# EAGLE library part EP2C20AF484 (library altera-cyclone-II)
EP2C20AF484 Auto generated by make-symbol-device-package-bsdl.ulp Rev. 18 Tip: Use split-device-symbol.ulp to generate a Device with multiple small symbols! Read HELP. Source: EP2C20AF484.BSD
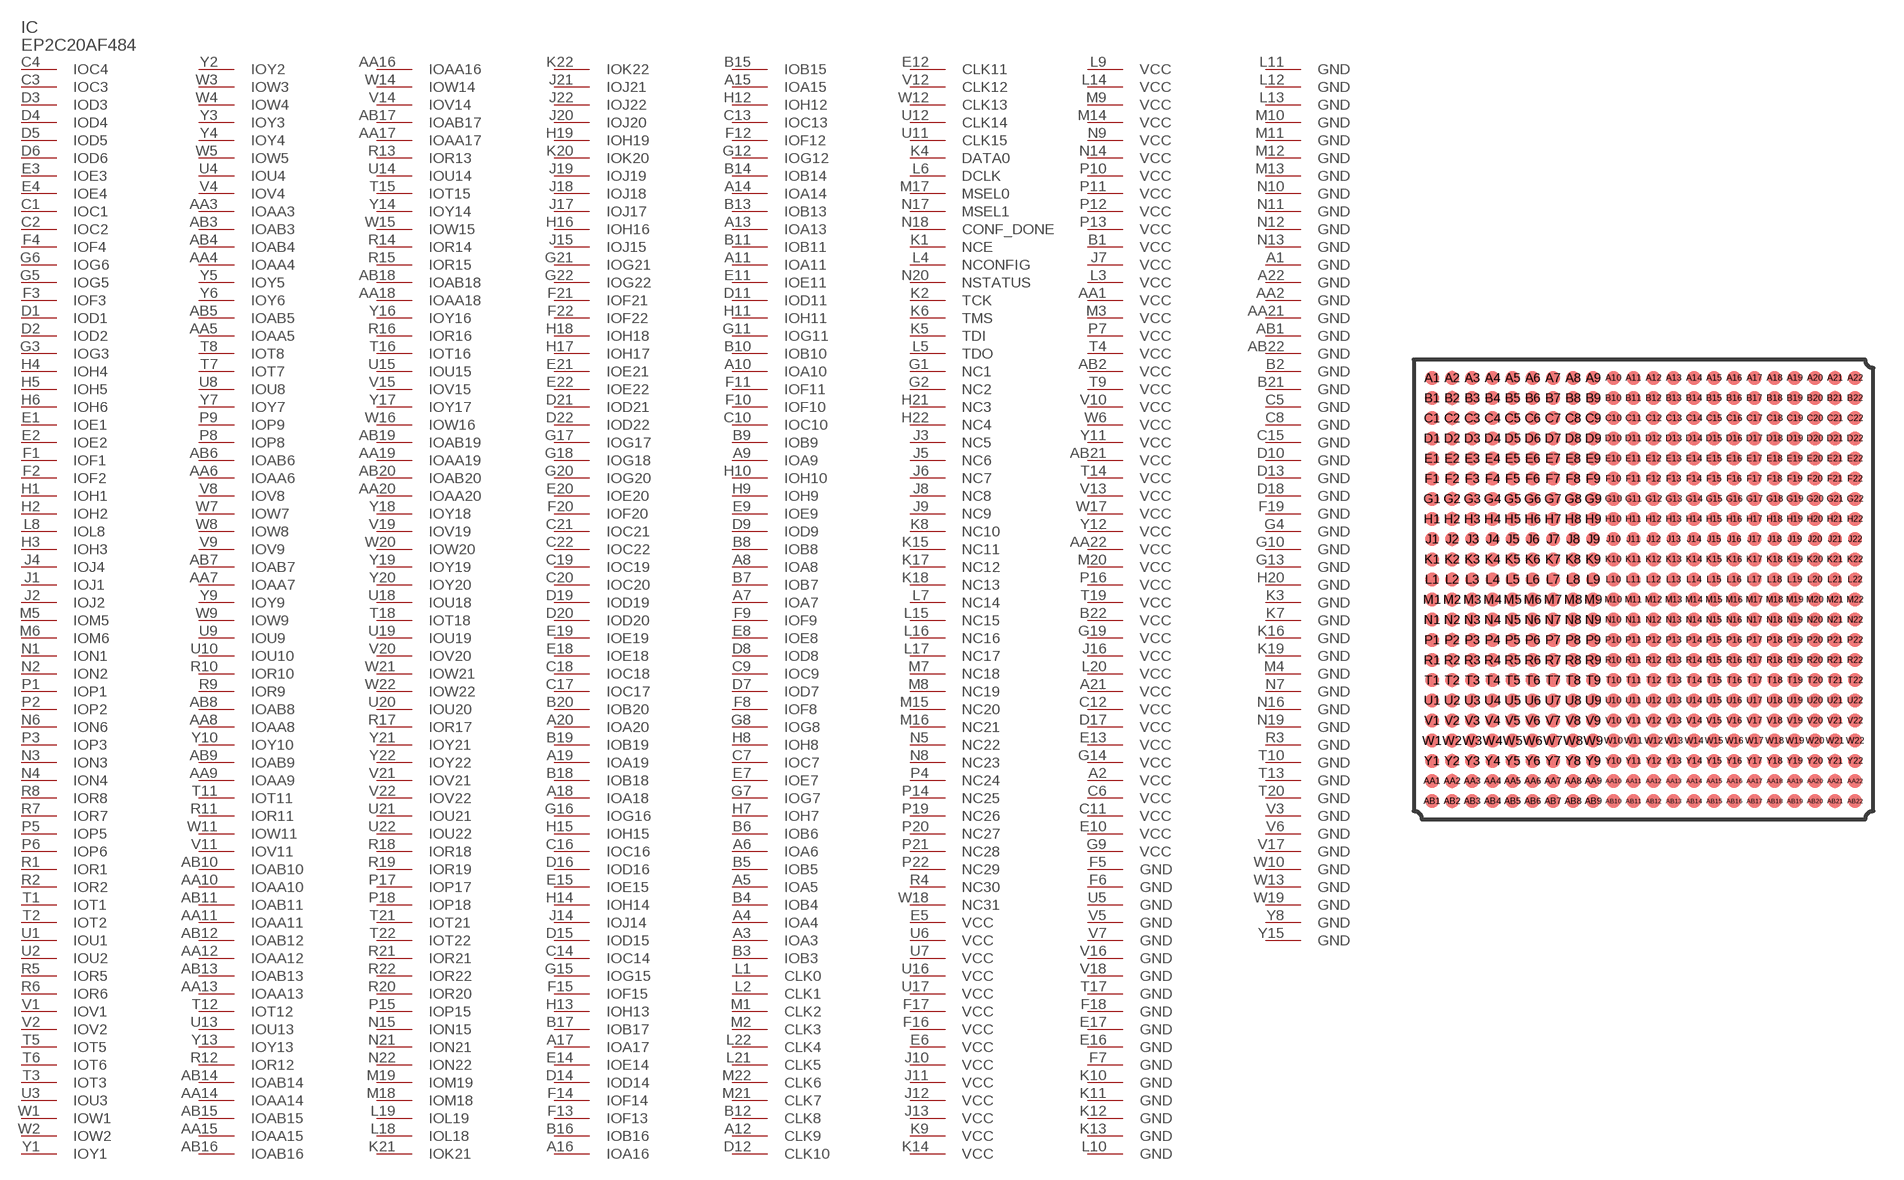
[diagram p18: symbol with the pads of FBGA484; footprint FBGA484]

Designator prefix IC

## EP2C20AF484 (MPN: EP2C20AF484I8N; OC_FARNELL: unknown; OC_NEWARK: 52R0500)  [FBGA484]
A1  GND  pwr
A2  VCC  pwr
A3  IOA3
A4  IOA4
A5  IOA5
A6  IOA6
A7  IOA7
A8  IOA8
A9  IOA9
A10  IOA10
A11  IOA11
A12  CLK9
A13  IOA13
A14  IOA14
A15  IOA15
A16  IOA16
A17  IOA17
A18  IOA18
A19  IOA19
A20  IOA20
A21  VCC  pwr
A22  GND  pwr
AA1  VCC  pwr
AA2  GND  pwr
AA3  IOAA3
AA4  IOAA4
AA5  IOAA5
AA6  IOAA6
AA7  IOAA7
AA8  IOAA8
AA9  IOAA9
AA10  IOAA10
AA11  IOAA11
AA12  IOAA12
AA13  IOAA13
AA14  IOAA14
AA15  IOAA15
AA16  IOAA16
AA17  IOAA17
AA18  IOAA18
AA19  IOAA19
AA20  IOAA20
AA21  GND  pwr
AA22  VCC  pwr
AB1  GND  pwr
AB2  VCC  pwr
AB3  IOAB3
AB4  IOAB4
AB5  IOAB5
AB6  IOAB6
AB7  IOAB7
AB8  IOAB8
AB9  IOAB9
AB10  IOAB10
AB11  IOAB11
AB12  IOAB12
AB13  IOAB13
AB14  IOAB14
AB15  IOAB15
AB16  IOAB16
AB17  IOAB17
AB18  IOAB18
AB19  IOAB19
AB20  IOAB20
AB21  VCC  pwr
AB22  GND  pwr
B1  VCC  pwr
B2  GND  pwr
B3  IOB3
B4  IOB4
B5  IOB5
B6  IOB6
B7  IOB7
B8  IOB8
B9  IOB9
B10  IOB10
B11  IOB11
B12  CLK8
B13  IOB13
B14  IOB14
B15  IOB15
B16  IOB16
B17  IOB17
B18  IOB18
B19  IOB19
B20  IOB20
B21  GND  pwr
B22  VCC  pwr
C1  IOC1
C2  IOC2
C3  IOC3  out
C4  IOC4  out
C5  GND  pwr
C6  VCC  pwr
C7  IOC7
C8  GND  pwr
C9  IOC9
C10  IOC10
C11  VCC  pwr
C12  VCC  pwr
C13  IOC13
C14  IOC14
C15  GND  pwr
C16  IOC16
C17  IOC17
C18  IOC18
C19  IOC19
C20  IOC20
C21  IOC21
C22  IOC22
D1  IOD1
D2  IOD2
D3  IOD3
D4  IOD4
D5  IOD5
D6  IOD6
D7  IOD7
D8  IOD8
D9  IOD9
D10  GND  pwr
D11  IOD11
D12  CLK10
D13  GND  pwr
D14  IOD14
D15  IOD15
D16  IOD16
D17  VCC  pwr
D18  GND  pwr
D19  IOD19
D20  IOD20
D21  IOD21
D22  IOD22
E1  IOE1
E2  IOE2
E3  IOE3
E4  IOE4
E5  VCC  pwr
E6  VCC  pwr
E7  IOE7
E8  IOE8
E9  IOE9
E10  VCC  pwr
E11  IOE11
E12  CLK11
E13  VCC  pwr
E14  IOE14
E15  IOE15
E16  GND  pwr
E17  GND  pwr
E18  IOE18
E19  IOE19
E20  IOE20
E21  IOE21
E22  IOE22
F1  IOF1
F2  IOF2
F3  IOF3
F4  IOF4
F5  GND  pwr
F6  GND  pwr
F7  GND  pwr
F8  IOF8
F9  IOF9
F10  IOF10
F11  IOF11
F12  IOF12
F13  IOF13
F14  IOF14
F15  IOF15
F16  VCC  pwr
F17  VCC  pwr
F18  GND  pwr
F19  GND  pwr
F20  IOF20
F21  IOF21
F22  IOF22
G1  NC1  pas
G2  NC2  pas
G3  IOG3
G4  GND  pwr
G5  IOG5
G6  IOG6
G7  IOG7
G8  IOG8
G9  VCC  pwr
G10  GND  pwr
G11  IOG11
G12  IOG12
G13  GND  pwr
G14  VCC  pwr
G15  IOG15
G16  IOG16
G17  IOG17
G18  IOG18
G19  VCC  pwr
G20  IOG20
G21  IOG21
G22  IOG22
H1  IOH1
H2  IOH2
H3  IOH3
H4  IOH4
H5  IOH5
H6  IOH6
H7  IOH7
H8  IOH8
H9  IOH9
H10  IOH10
H11  IOH11
H12  IOH12
H13  IOH13
H14  IOH14
H15  IOH15
H16  IOH16
H17  IOH17
H18  IOH18
H19  IOH19
H20  GND  pwr
H21  NC3  pas
H22  NC4  pas
J1  IOJ1
J2  IOJ2
J3  NC5  pas
J4  IOJ4
J5  NC6  pas
J6  NC7  pas
J7  VCC  pwr
J8  NC8  pas
J9  NC9  pas
J10  VCC  pwr
J11  VCC  pwr
J12  VCC  pwr
J13  VCC  pwr
J14  IOJ14
J15  IOJ15
J16  VCC  pwr
J17  IOJ17
J18  IOJ18
J19  IOJ19
J20  IOJ20
J21  IOJ21
J22  IOJ22
K1  NCE  in
K2  TCK  in
K3  GND  pwr
K4  DATA0
K5  TDI  in
K6  TMS  in
K7  GND  pwr
K8  NC10  pas
K9  VCC  pwr
K10  GND  pwr
K11  GND  pwr
K12  GND  pwr
K13  GND  pwr
K14  VCC  pwr
K15  NC11  pas
K16  GND  pwr
K17  NC12  pas
K18  NC13  pas
K19  GND  pwr
K20  IOK20
K21  IOK21
K22  IOK22
L1  CLK0
L2  CLK1
L3  VCC  pwr
L4  NCONFIG  in
L5  TDO  out
L6  DCLK
L7  NC14  pas
L8  IOL8
L9  VCC  pwr
L10  GND  pwr
L11  GND  pwr
L12  GND  pwr
L13  GND  pwr
L14  VCC  pwr
L15  NC15  pas
L16  NC16  pas
L17  NC17  pas
L18  IOL18
L19  IOL19
L20  VCC  pwr
L21  CLK5
L22  CLK4
M1  CLK2
M2  CLK3
M3  VCC  pwr
M4  GND  pwr
M5  IOM5
M6  IOM6
M7  NC18  pas
M8  NC19  pas
M9  VCC  pwr
M10  GND  pwr
M11  GND  pwr
M12  GND  pwr
M13  GND  pwr
M14  VCC  pwr
M15  NC20  pas
M16  NC21  pas
M17  MSEL0  in
M18  IOM18
M19  IOM19
M20  VCC  pwr
M21  CLK7
M22  CLK6
N1  ION1
N2  ION2
N3  ION3
N4  ION4
N5  NC22  pas
N6  ION6
N7  GND  pwr
N8  NC23  pas
N9  VCC  pwr
N10  GND  pwr
N11  GND  pwr
N12  GND  pwr
N13  GND  pwr
N14  VCC  pwr
N15  ION15
N16  GND  pwr
N17  MSEL1  in
N18  CONF_DONE  in
N19  GND  pwr
N20  NSTATUS  in
N21  ION21
N22  ION22
P1  IOP1
P2  IOP2
P3  IOP3
P4  NC24  pas
P5  IOP5
P6  IOP6
P7  VCC  pwr
P8  IOP8
P9  IOP9
P10  VCC  pwr
P11  VCC  pwr
P12  VCC  pwr
P13  VCC  pwr
P14  NC25  pas
P15  IOP15
P16  VCC  pwr
P17  IOP17
P18  IOP18
P19  NC26  pas
P20  NC27  pas
P21  NC28  pas
P22  NC29  pas
R1  IOR1
R2  IOR2
R3  GND  pwr
R4  NC30  pas
R5  IOR5
R6  IOR6
R7  IOR7
R8  IOR8
R9  IOR9
R10  IOR10
R11  IOR11
R12  IOR12
R13  IOR13
R14  IOR14
R15  IOR15
R16  IOR16
R17  IOR17
R18  IOR18
R19  IOR19
R20  IOR20
R21  IOR21
R22  IOR22
T1  IOT1
T2  IOT2
T3  IOT3
T4  VCC  pwr
T5  IOT5
T6  IOT6
T7  IOT7
T8  IOT8
T9  VCC  pwr
T10  GND  pwr
T11  IOT11
T12  IOT12
T13  GND  pwr
T14  VCC  pwr
T15  IOT15
T16  IOT16
T17  GND  pwr
T18  IOT18
T19  VCC  pwr
T20  GND  pwr
T21  IOT21
T22  IOT22
U1  IOU1
U2  IOU2
U3  IOU3
U4  IOU4
U5  GND  pwr
U6  VCC  pwr
U7  VCC  pwr
U8  IOU8
U9  IOU9
U10  IOU10
U11  CLK15
U12  CLK14
U13  IOU13
U14  IOU14
U15  IOU15
U16  VCC  pwr
U17  VCC  pwr
U18  IOU18
U19  IOU19
U20  IOU20
U21  IOU21
U22  IOU22
V1  IOV1
V2  IOV2
V3  GND  pwr
V4  IOV4
V5  GND  pwr
V6  GND  pwr
V7  GND  pwr
V8  IOV8
V9  IOV9
V10  VCC  pwr
V11  IOV11
V12  CLK12
V13  VCC  pwr
V14  IOV14
V15  IOV15
V16  GND  pwr
V17  GND  pwr
V18  GND  pwr
V19  IOV19
V20  IOV20
V21  IOV21
V22  IOV22
W1  IOW1
W2  IOW2
W3  IOW3
W4  IOW4
W5  IOW5
W6  VCC  pwr
W7  IOW7
W8  IOW8
W9  IOW9
W10  GND  pwr
W11  IOW11
W12  CLK13
W13  GND  pwr
W14  IOW14
W15  IOW15
W16  IOW16
W17  VCC  pwr
W18  NC31  pas
W19  GND  pwr
W20  IOW20
W21  IOW21
W22  IOW22
Y1  IOY1
Y2  IOY2
Y3  IOY3
Y4  IOY4
Y5  IOY5
Y6  IOY6
Y7  IOY7
Y8  GND  pwr
Y9  IOY9
Y10  IOY10
Y11  VCC  pwr
Y12  VCC  pwr
Y13  IOY13
Y14  IOY14
Y15  GND  pwr
Y16  IOY16
Y17  IOY17
Y18  IOY18
Y19  IOY19
Y20  IOY20
Y21  IOY21
Y22  IOY22

## Footprint FBGA484 (pad centres in mm)
EP2C15AF484 Auto generated by make-symbol-device-package-bsdl.ulp Rev. 18 Source: EP2C15AF484.BSD www.altera.com .. cyc2_cii51015.pdf
smd 0.7 x 0.7: A1 -10.5,10.5; A2 -9.5,10.5; A3 -8.5,10.5; A4 -7.5,10.5; A5 -6.5,10.5; A6 -5.5,10.5; A7 -4.5,10.5; A8 -3.5,10.5; A9 -2.5,10.5; A10 -1.5,10.5; A11 -0.5,10.5; A12 0.5,10.5; A13 1.5,10.5; A14 2.5,10.5; A15 3.5,10.5; A16 4.5,10.5; A17 5.5,10.5; A18 6.5,10.5; A19 7.5,10.5; A20 8.5,10.5; A21 9.5,10.5; A22 10.5,10.5; AA1 -10.5,-9.5; AA2 -9.5,-9.5; AA3 -8.5,-9.5; AA4 -7.5,-9.5; AA5 -6.5,-9.5; AA6 -5.5,-9.5; AA7 -4.5,-9.5; AA8 -3.5,-9.5; AA9 -2.5,-9.5; AA10 -1.5,-9.5; AA11 -0.5,-9.5; AA12 0.5,-9.5; AA13 1.5,-9.5; AA14 2.5,-9.5; AA15 3.5,-9.5; AA16 4.5,-9.5; AA17 5.5,-9.5; AA18 6.5,-9.5; AA19 7.5,-9.5; AA20 8.5,-9.5; AA21 9.5,-9.5; AA22 10.5,-9.5; AB1 -10.5,-10.5; AB2 -9.5,-10.5; AB3 -8.5,-10.5; AB4 -7.5,-10.5; AB5 -6.5,-10.5; AB6 -5.5,-10.5; AB7 -4.5,-10.5; AB8 -3.5,-10.5; AB9 -2.5,-10.5; AB10 -1.5,-10.5; AB11 -0.5,-10.5; AB12 0.5,-10.5; AB13 1.5,-10.5; AB14 2.5,-10.5; AB15 3.5,-10.5; AB16 4.5,-10.5; AB17 5.5,-10.5; AB18 6.5,-10.5; AB19 7.5,-10.5; AB20 8.5,-10.5; AB21 9.5,-10.5; AB22 10.5,-10.5; B1 -10.5,9.5; B2 -9.5,9.5; B3 -8.5,9.5; B4 -7.5,9.5; B5 -6.5,9.5; B6 -5.5,9.5; B7 -4.5,9.5; B8 -3.5,9.5; B9 -2.5,9.5; B10 -1.5,9.5; B11 -0.5,9.5; B12 0.5,9.5; B13 1.5,9.5; B14 2.5,9.5; B15 3.5,9.5; B16 4.5,9.5; B17 5.5,9.5; B18 6.5,9.5; B19 7.5,9.5; B20 8.5,9.5; B21 9.5,9.5; B22 10.5,9.5; C1 -10.5,8.5; C2 -9.5,8.5; C3 -8.5,8.5; C4 -7.5,8.5; C5 -6.5,8.5; C6 -5.5,8.5; C7 -4.5,8.5; C8 -3.5,8.5; C9 -2.5,8.5; C10 -1.5,8.5; C11 -0.5,8.5; C12 0.5,8.5; C13 1.5,8.5; C14 2.5,8.5; C15 3.5,8.5; C16 4.5,8.5; C17 5.5,8.5; C18 6.5,8.5; C19 7.5,8.5; C20 8.5,8.5; C21 9.5,8.5; C22 10.5,8.5; D1 -10.5,7.5; D2 -9.5,7.5; D3 -8.5,7.5; D4 -7.5,7.5; D5 -6.5,7.5; D6 -5.5,7.5; D7 -4.5,7.5; D8 -3.5,7.5; D9 -2.5,7.5; D10 -1.5,7.5; D11 -0.5,7.5; D12 0.5,7.5; D13 1.5,7.5; D14 2.5,7.5; D15 3.5,7.5; D16 4.5,7.5; D17 5.5,7.5; D18 6.5,7.5; D19 7.5,7.5; D20 8.5,7.5; D21 9.5,7.5; D22 10.5,7.5; E1 -10.5,6.5; E2 -9.5,6.5; E3 -8.5,6.5; E4 -7.5,6.5; E5 -6.5,6.5; E6 -5.5,6.5; E7 -4.5,6.5; E8 -3.5,6.5; E9 -2.5,6.5; E10 -1.5,6.5; E11 -0.5,6.5; E12 0.5,6.5; E13 1.5,6.5; E14 2.5,6.5; E15 3.5,6.5; E16 4.5,6.5; E17 5.5,6.5; E18 6.5,6.5; E19 7.5,6.5; E20 8.5,6.5; E21 9.5,6.5; E22 10.5,6.5; F1 -10.5,5.5; F2 -9.5,5.5; F3 -8.5,5.5; F4 -7.5,5.5; F5 -6.5,5.5; F6 -5.5,5.5; F7 -4.5,5.5; F8 -3.5,5.5; F9 -2.5,5.5; F10 -1.5,5.5; F11 -0.5,5.5; F12 0.5,5.5; F13 1.5,5.5; F14 2.5,5.5; F15 3.5,5.5; F16 4.5,5.5; F17 5.5,5.5; F18 6.5,5.5; F19 7.5,5.5; F20 8.5,5.5; F21 9.5,5.5; F22 10.5,5.5; G1 -10.5,4.5; G2 -9.5,4.5; G3 -8.5,4.5; G4 -7.5,4.5; G5 -6.5,4.5; G6 -5.5,4.5; G7 -4.5,4.5; G8 -3.5,4.5; G9 -2.5,4.5; G10 -1.5,4.5; G11 -0.5,4.5; G12 0.5,4.5; G13 1.5,4.5; G14 2.5,4.5; G15 3.5,4.5; G16 4.5,4.5; G17 5.5,4.5; G18 6.5,4.5; G19 7.5,4.5; G20 8.5,4.5; G21 9.5,4.5; G22 10.5,4.5; H1 -10.5,3.5; H2 -9.5,3.5; H3 -8.5,3.5; H4 -7.5,3.5; H5 -6.5,3.5; H6 -5.5,3.5; H7 -4.5,3.5; H8 -3.5,3.5; H9 -2.5,3.5; H10 -1.5,3.5; H11 -0.5,3.5; H12 0.5,3.5; H13 1.5,3.5; H14 2.5,3.5; H15 3.5,3.5; H16 4.5,3.5; H17 5.5,3.5; H18 6.5,3.5; H19 7.5,3.5; H20 8.5,3.5; H21 9.5,3.5; H22 10.5,3.5; J1 -10.5,2.5; J2 -9.5,2.5; J3 -8.5,2.5; J4 -7.5,2.5; J5 -6.5,2.5; J6 -5.5,2.5; J7 -4.5,2.5; J8 -3.5,2.5; J9 -2.5,2.5; J10 -1.5,2.5; J11 -0.5,2.5; J12 0.5,2.5; J13 1.5,2.5; J14 2.5,2.5; J15 3.5,2.5; J16 4.5,2.5; J17 5.5,2.5; J18 6.5,2.5; J19 7.5,2.5; J20 8.5,2.5; J21 9.5,2.5; J22 10.5,2.5; K1 -10.5,1.5; K2 -9.5,1.5; K3 -8.5,1.5; K4 -7.5,1.5; K5 -6.5,1.5; K6 -5.5,1.5; K7 -4.5,1.5; K8 -3.5,1.5; K9 -2.5,1.5; K10 -1.5,1.5; K11 -0.5,1.5; K12 0.5,1.5; K13 1.5,1.5; K14 2.5,1.5; K15 3.5,1.5; K16 4.5,1.5; K17 5.5,1.5; K18 6.5,1.5; K19 7.5,1.5; K20 8.5,1.5; K21 9.5,1.5; K22 10.5,1.5; L1 -10.5,0.5; L2 -9.5,0.5; L3 -8.5,0.5; L4 -7.5,0.5; L5 -6.5,0.5; L6 -5.5,0.5; L7 -4.5,0.5; L8 -3.5,0.5; L9 -2.5,0.5; L10 -1.5,0.5; L11 -0.5,0.5; L12 0.5,0.5; L13 1.5,0.5; L14 2.5,0.5; L15 3.5,0.5; L16 4.5,0.5; L17 5.5,0.5; L18 6.5,0.5; L19 7.5,0.5; L20 8.5,0.5; L21 9.5,0.5; L22 10.5,0.5; M1 -10.5,-0.5; M2 -9.5,-0.5; M3 -8.5,-0.5; M4 -7.5,-0.5; M5 -6.5,-0.5; M6 -5.5,-0.5; M7 -4.5,-0.5; M8 -3.5,-0.5; M9 -2.5,-0.5; M10 -1.5,-0.5; M11 -0.5,-0.5; M12 0.5,-0.5; M13 1.5,-0.5; M14 2.5,-0.5; M15 3.5,-0.5; M16 4.5,-0.5; M17 5.5,-0.5; M18 6.5,-0.5; M19 7.5,-0.5; M20 8.5,-0.5; M21 9.5,-0.5; M22 10.5,-0.5; N1 -10.5,-1.5; N2 -9.5,-1.5; N3 -8.5,-1.5; N4 -7.5,-1.5; N5 -6.5,-1.5; N6 -5.5,-1.5; N7 -4.5,-1.5; N8 -3.5,-1.5; N9 -2.5,-1.5; N10 -1.5,-1.5; N11 -0.5,-1.5; N12 0.5,-1.5; N13 1.5,-1.5; N14 2.5,-1.5; N15 3.5,-1.5; N16 4.5,-1.5; N17 5.5,-1.5; N18 6.5,-1.5; N19 7.5,-1.5; N20 8.5,-1.5; N21 9.5,-1.5; N22 10.5,-1.5; P1 -10.5,-2.5; P2 -9.5,-2.5; P3 -8.5,-2.5; P4 -7.5,-2.5; P5 -6.5,-2.5; P6 -5.5,-2.5; P7 -4.5,-2.5; P8 -3.5,-2.5; P9 -2.5,-2.5; P10 -1.5,-2.5; P11 -0.5,-2.5; P12 0.5,-2.5; P13 1.5,-2.5; P14 2.5,-2.5; P15 3.5,-2.5; P16 4.5,-2.5; P17 5.5,-2.5; P18 6.5,-2.5; P19 7.5,-2.5; P20 8.5,-2.5; P21 9.5,-2.5; P22 10.5,-2.5; R1 -10.5,-3.5; R2 -9.5,-3.5; R3 -8.5,-3.5; R4 -7.5,-3.5; R5 -6.5,-3.5; R6 -5.5,-3.5; R7 -4.5,-3.5; R8 -3.5,-3.5; R9 -2.5,-3.5; R10 -1.5,-3.5; R11 -0.5,-3.5; R12 0.5,-3.5; R13 1.5,-3.5; R14 2.5,-3.5; R15 3.5,-3.5; R16 4.5,-3.5; R17 5.5,-3.5; R18 6.5,-3.5; R19 7.5,-3.5; R20 8.5,-3.5; R21 9.5,-3.5; R22 10.5,-3.5; T1 -10.5,-4.5; T2 -9.5,-4.5; T3 -8.5,-4.5; T4 -7.5,-4.5; T5 -6.5,-4.5; T6 -5.5,-4.5; T7 -4.5,-4.5; T8 -3.5,-4.5; T9 -2.5,-4.5; T10 -1.5,-4.5; T11 -0.5,-4.5; T12 0.5,-4.5; T13 1.5,-4.5; T14 2.5,-4.5; T15 3.5,-4.5; T16 4.5,-4.5; T17 5.5,-4.5; T18 6.5,-4.5; T19 7.5,-4.5; T20 8.5,-4.5; T21 9.5,-4.5; T22 10.5,-4.5; U1 -10.5,-5.5; U2 -9.5,-5.5; U3 -8.5,-5.5; U4 -7.5,-5.5; U5 -6.5,-5.5; U6 -5.5,-5.5; U7 -4.5,-5.5; U8 -3.5,-5.5; U9 -2.5,-5.5; U10 -1.5,-5.5; U11 -0.5,-5.5; U12 0.5,-5.5; U13 1.5,-5.5; U14 2.5,-5.5; U15 3.5,-5.5; U16 4.5,-5.5; U17 5.5,-5.5; U18 6.5,-5.5; U19 7.5,-5.5; U20 8.5,-5.5; U21 9.5,-5.5; U22 10.5,-5.5; V1 -10.5,-6.5; V2 -9.5,-6.5; V3 -8.5,-6.5; V4 -7.5,-6.5; V5 -6.5,-6.5; V6 -5.5,-6.5; V7 -4.5,-6.5; V8 -3.5,-6.5; V9 -2.5,-6.5; V10 -1.5,-6.5; V11 -0.5,-6.5; V12 0.5,-6.5; V13 1.5,-6.5; V14 2.5,-6.5; V15 3.5,-6.5; V16 4.5,-6.5; V17 5.5,-6.5; V18 6.5,-6.5; V19 7.5,-6.5; V20 8.5,-6.5; V21 9.5,-6.5; V22 10.5,-6.5; W1 -10.5,-7.5; W2 -9.5,-7.5; W3 -8.5,-7.5; W4 -7.5,-7.5; W5 -6.5,-7.5; W6 -5.5,-7.5; W7 -4.5,-7.5; W8 -3.5,-7.5; W9 -2.5,-7.5; W10 -1.5,-7.5; W11 -0.5,-7.5; W12 0.5,-7.5; W13 1.5,-7.5; W14 2.5,-7.5; W15 3.5,-7.5; W16 4.5,-7.5; W17 5.5,-7.5; W18 6.5,-7.5; W19 7.5,-7.5; W20 8.5,-7.5; W21 9.5,-7.5; W22 10.5,-7.5; Y1 -10.5,-8.5; Y2 -9.5,-8.5; Y3 -8.5,-8.5; Y4 -7.5,-8.5; Y5 -6.5,-8.5; Y6 -5.5,-8.5; Y7 -4.5,-8.5; Y8 -3.5,-8.5; Y9 -2.5,-8.5; Y10 -1.5,-8.5; Y11 -0.5,-8.5; Y12 0.5,-8.5; Y13 1.5,-8.5; Y14 2.5,-8.5; Y15 3.5,-8.5; Y16 4.5,-8.5; Y17 5.5,-8.5; Y18 6.5,-8.5; Y19 7.5,-8.5; Y20 8.5,-8.5; Y21 9.5,-8.5; Y22 10.5,-8.5